# Altium schematic symbol library Integrated_Curcuits.SCHLIB: 65 symbols (part 2 of 3)
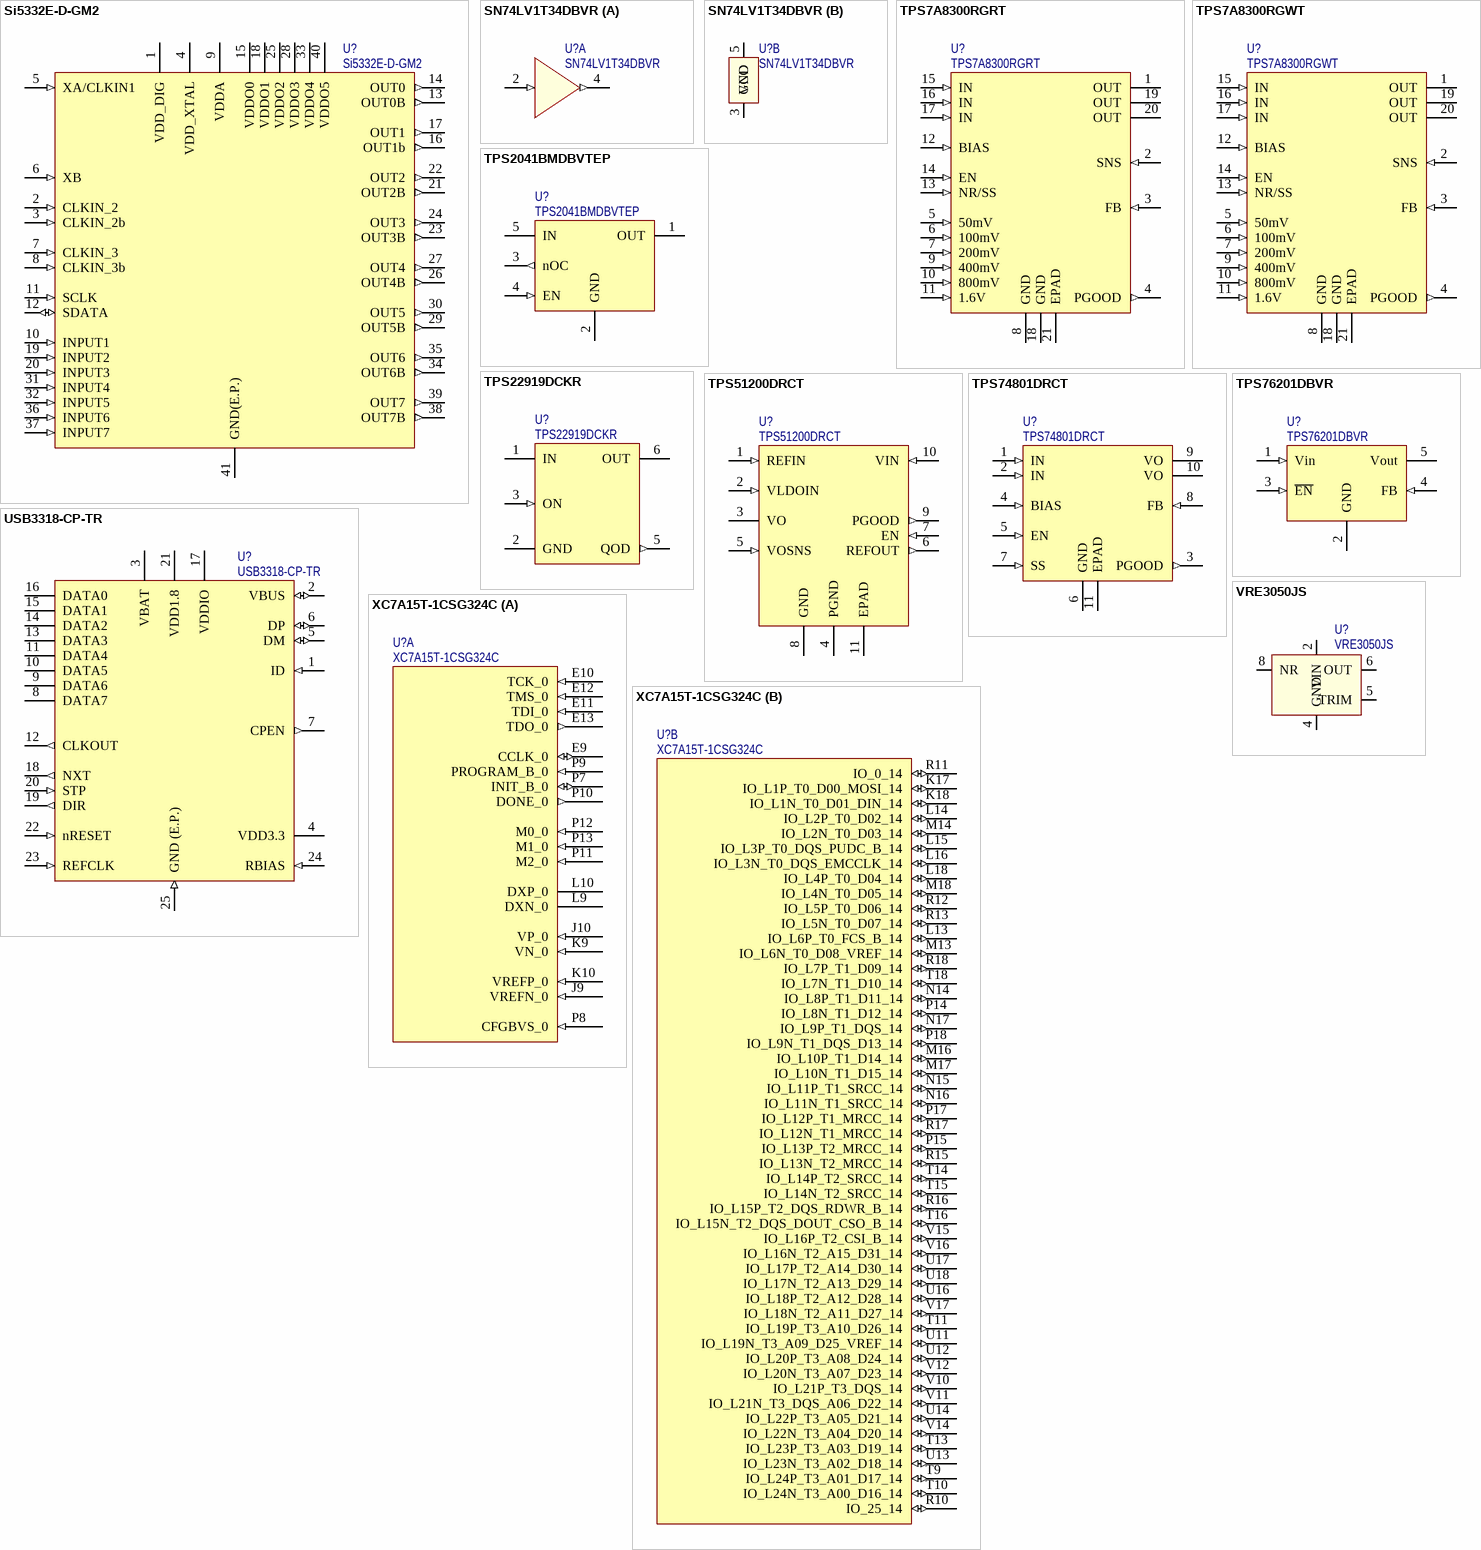
[diagram p13: symbols Si5332E-D-GM2 to XC7A15T-1CSG324C]

## TPS7A8300RGRT
designator U?
IC; Linear Voltage Regulator; Adjustable; 2A Output; VQFN20; Manufacturer: Texas Instruments; Manufacturer Part Number: TPS7A8300RGRT; Supplier 1: DigiKey; Supplier Part Number 1: 296-41871-1-ND; ComponentLink1Description: Supplier Info; ComponentLink1URL: https://www.digikey.co.uk/en/products/detail/texas-instruments/TPS7A8300RGRT/4895614?s=N4IgTCBcDa4JwDYC0AWAjADgOxqcgcgCIgC6AvkA; ComponentLink2Description: Datasheet; ComponentLink2URL: https://www.ti.com/general/docs/suppproductinfo.tsp?distId=10&gotoUrl=http%253A%252F%252Fwww.ti.com%252Flit%252Fgpn%252Ftps7a8300; Value: TPS7A8300RGRT
footprint S-PVQFN-N20-RGR (TI RGR (S-PVQFN-N20))
pins: 1 OUT (hiz), 2 SNS (in), 3 FB (in), 4 PGOOD (out), 5 50mV (in), 6 100mV (in), 7 200mV (in), 8 GND (power), 9 400mV (in), 10 800mV (in), 11 1.6V (in), 12 BIAS (in), 13 NR/SS (in), 14 EN (in), 15 IN (in), 16 IN (in), 17 IN (in), 18 GND (power), 19 OUT (hiz), 20 OUT (hiz), 21 EPAD

## TPS7A8300RGWT
designator U?
IC; Linear Voltage Regulator; Adjustable; 2A Output; VQFN20; Manufacturer: Texas Instruments; Manufacturer Part Number: TPS7A8300RGWT; Supplier 1: DigiKey; Supplier Part Number 1: 296-36510-6-ND; ComponentLink1Description: Supplier Info; ComponentLink1URL: https://www.digikey.co.uk/en/products/detail/texas-instruments/TPS7A8300RGWT/4311718?s=N4IgTCBcDa4JwDYC0BmBBWAjABicgcgCIgC6AvkA; ComponentLink2Description: Datasheet; ComponentLink2URL: https://www.ti.com/general/docs/suppproductinfo.tsp?distId=10&gotoUrl=http%253A%252F%252Fwww.ti.com%252Flit%252Fgpn%252Ftps7a8300; Value: TPS7A8300RGWT
footprint S-PVQFN-N20
pins: 1 OUT (hiz), 2 SNS (in), 3 FB (in), 4 PGOOD (out), 5 50mV (in), 6 100mV (in), 7 200mV (in), 8 GND (power), 9 400mV (in), 10 800mV (in), 11 1.6V (in), 12 BIAS (in), 13 NR/SS (in), 14 EN (in), 15 IN (in), 16 IN (in), 17 IN (in), 18 GND (power), 19 OUT (hiz), 20 OUT (hiz), 21 EPAD

## TPS2041BMDBVTEP
designator U?
IC; Power Switch/Driver; 1:1; N-Channel; 500mA; SOT23-5; Manufacturer: Texas Instruments; Manufacturer Part Number: TPS2041BMDBVTEP; Supplier 1: DigiKey; Supplier Part Number 1: 296-29758-6-ND; ComponentLink1Description: Supplier Info; ComponentLink1URL: https://www.digikey.co.uk/en/products/detail/texas-instruments/TPS2041BMDBVTEP/2767588?s=N4IgTCBcDa4JwDYC0Y4HYCsAOJyByAIiALoC%2BQA; ComponentLink2Description: Datasheet; ComponentLink2URL: http://www.ti.com/lit/ds/symlink/tps22919.pdf; Value: TPS2041BMDBVTEP
footprint SOT23-5_2_2
pins: 1 OUT (hiz), 2 GND (power), 3 nOC (out), 4 EN (in), 5 IN (power)

## TPS22919DCKR
designator U?
IC; Power Switch/Driver; 1:1; N-Channel; 1.5A; SC-70-6; Manufacturer: Texas Instruments; Manufacturer Part Number: TPS22919DCKR; Supplier 1: Digi-Key; Supplier Part Number 1: 296-TPS22919DCKRCT-ND; ComponentLink1Description: Supplier Info; ComponentLink1URL: https://www.digikey.co.uk/en/products/detail/texas-instruments/TPS22919DCKR/10434801?s=N4IgTCBcDa4JwDYC0AVACgZTGOBGOAIgMIDSASgeUgHIEgC6AvkA; ComponentLink2Description: Datasheet; ComponentLink2URL: http://www.ti.com/lit/ds/symlink/tps51200.pdf; Value: TPS22919DCKR
footprint TI-SC70-6 (SC70, 6-Leads, Body 2.00x2.10mm, Pitch 0.65mm, IPC High Density)
pins: 1 IN (power), 2 GND (power), 3 ON (in), 5 QOD (out), 6 OUT (hiz)

## TPS51200DRCT
designator U?
IC; Voltage Regulator; DDR; VSON10; Manufacturer: Texas Instruments; Manufacturer Part Number: TPS51200DRCT; Supplier 1: DigiKey; Supplier Part Number 1: 296-23830-6-ND; ComponentLink1Description: Supplier Info; ComponentLink1URL: https://www.digikey.co.uk/en/products/detail/texas-instruments/TPS51200DRCT/1907877?s=N4IgTCBcDa4JwDYC0YDMAOVAGJyByAIiALoC%2BQA; ComponentLink2Description: Datasheet; ComponentLink2URL: http://www.ti.com/general/docs/suppproductinfo.tsp?distId=10&gotoUrl=http%3A%2F%2Fwww.ti.com%2Flit%2Fgpn%2Ftps74801; Value: TPS51200DRCT
footprint PVSN10
pins: 1 REFIN (in), 2 VLDOIN (in), 3 VO (hiz), 4 PGND (power), 5 VOSNS (in), 6 REFOUT (out), 7 EN (in), 8 GND (power), 9 PGOOD (out), 10 VIN (in), 11 EPAD

## TPS74801DRCT
designator U?
IC; Linear Voltage Regulator; Adjustable; 1.5A Output; VSON20; Manufacturer: Texas Instruments; Manufacturer Part Number: TPS74801DRCT; Supplier 1: DigiKey; Supplier Part Number 1: 296-27072-6-ND; ComponentLink1Description: Supplier Info; ComponentLink1URL: https://www.digikey.co.uk/en/products/detail/texas-instruments/TPS74801DRCT/1908307?s=N4IgTCBcDa4JwDYC0YDsAGVYnIHIBEQBdAXyA; ComponentLink2Description: Datasheet; ComponentLink2URL: https://www.xilinx.com/support/documentation/data_sheets/ds181_Artix_7_Data_Sheet.pdf; Value: TPS74801DRCT
footprint PVSN10 (Footprint not found)
pins: 1 IN (in), 2 IN (in), 3 PGOOD (out), 4 BIAS (in), 5 EN (in), 6 GND (power), 7 SS (in), 8 FB (in), 9 VO (hiz), 10 VO (hiz), 11 EPAD

## TPS76201DBVR
designator U?
IC; Linear Voltage Regulator; Adjustable; 100mA Output; SOT23-5; Manufacturer: Texas Instruments; Manufacturer Part Number: TPS76201DBVR; Supplier 1: DigiKey; Supplier Part Number 1: 296-11013-1-ND; ComponentLink1Description: Supplier Info; ComponentLink1URL: https://www.digikey.co.uk/en/products/detail/texas-instruments/TPS76201DBVR/382210?s=N4IgTCBcDa4JwDYC0BGFAGFBmVSByAIiALoC%2BQA; ComponentLink2Description: Datasheet; ComponentLink2URL: http://www.ti.com/lit/ds/symlink/tps76201.pdf; Value: TPS76201DBVR
footprint SOT23-5 (SOT 23 5 lead)
pins: 1 Vin (in), 2 GND (power), 3 ~{EN} (in), 4 FB (in), 5 Vout (hiz)

## USB3318-CP-TR
designator U?
IC; Transceiver; USB2.0; FlexPWR; QFN24; Manufacturer: Microchip Technology; Manufacturer Part Number: USB3318-CP-TR; Supplier 1: DigiKey; Supplier Part Number 1: 638-1064-6-ND; ComponentLink1Description: Supplier Info; ComponentLink1URL: https://www.digikey.co.uk/en/products/detail/microchip-technology/USB3318-CP-TR/1825071?s=N4IgTCBcDaIGwGYAcBaAjABjgFhXFAcgCIgC6AvkA; ComponentLink2Description: Datasheet; ComponentLink2URL: https://ww1.microchip.com/downloads/en/DeviceDoc/3318.pdf; Value: USB3318-CP-TR
footprint SMSC-QFN24-4mmx4mm (QFN, 24-Leads, Body 4.00x4.00mm, Pitch 0.50mm, Thermal Pad 2.50x2.50mm, IPC High Density)
pins: 1 ID (in), 2 VBUS (io), 3 VBAT (power), 4 VDD3.3 (power), 5 DM (io), 6 DP (io), 7 CPEN (out), 8 DATA7 (hiz), 9 DATA6 (hiz), 10 DATA5 (hiz), 11 DATA4 (hiz), 12 CLKOUT (out), 13 DATA3 (hiz), 14 DATA2 (hiz), 15 DATA1 (hiz), 16 DATA0 (hiz), 17 VDDIO (power), 18 NXT (out), 19 DIR (out), 20 STP (in), 21 VDD1.8 (power), 22 nRESET (in), 23 REFCLK (in), 24 RBIAS (in), 25 GND (E.P.) (in)

## VRE3050JS
designator U?
IC; Series VREF; 5V; 0.01%; SMT8; Manufacturer: Apex Microtechnology; Manufacturer Part Number: VRE3050JS; Supplier 1: DigiKey; Supplier Part Number 1: 1240-1002-5-ND; ComponentLink1Description: Supplier Info; ComponentLink1URL: https://www.digikey.co.uk/en/products/detail/apex-microtechnology/VRE3050JS/2036537?s=N4IgTCBcDaIIxgCwAYC0dnLKgrKgcgCIgC6AvkA; ComponentLink2Description: Datasheet; ComponentLink2URL: https://www.apexanalog.com/resources/products/vre3050ds.pdf; Value: VRE3050JS
footprint GF (APEX 8-pin Surface Mount DIP)
pins: 2 VIN, 4 GND, 5 TRIM, 6 OUT, 8 NR

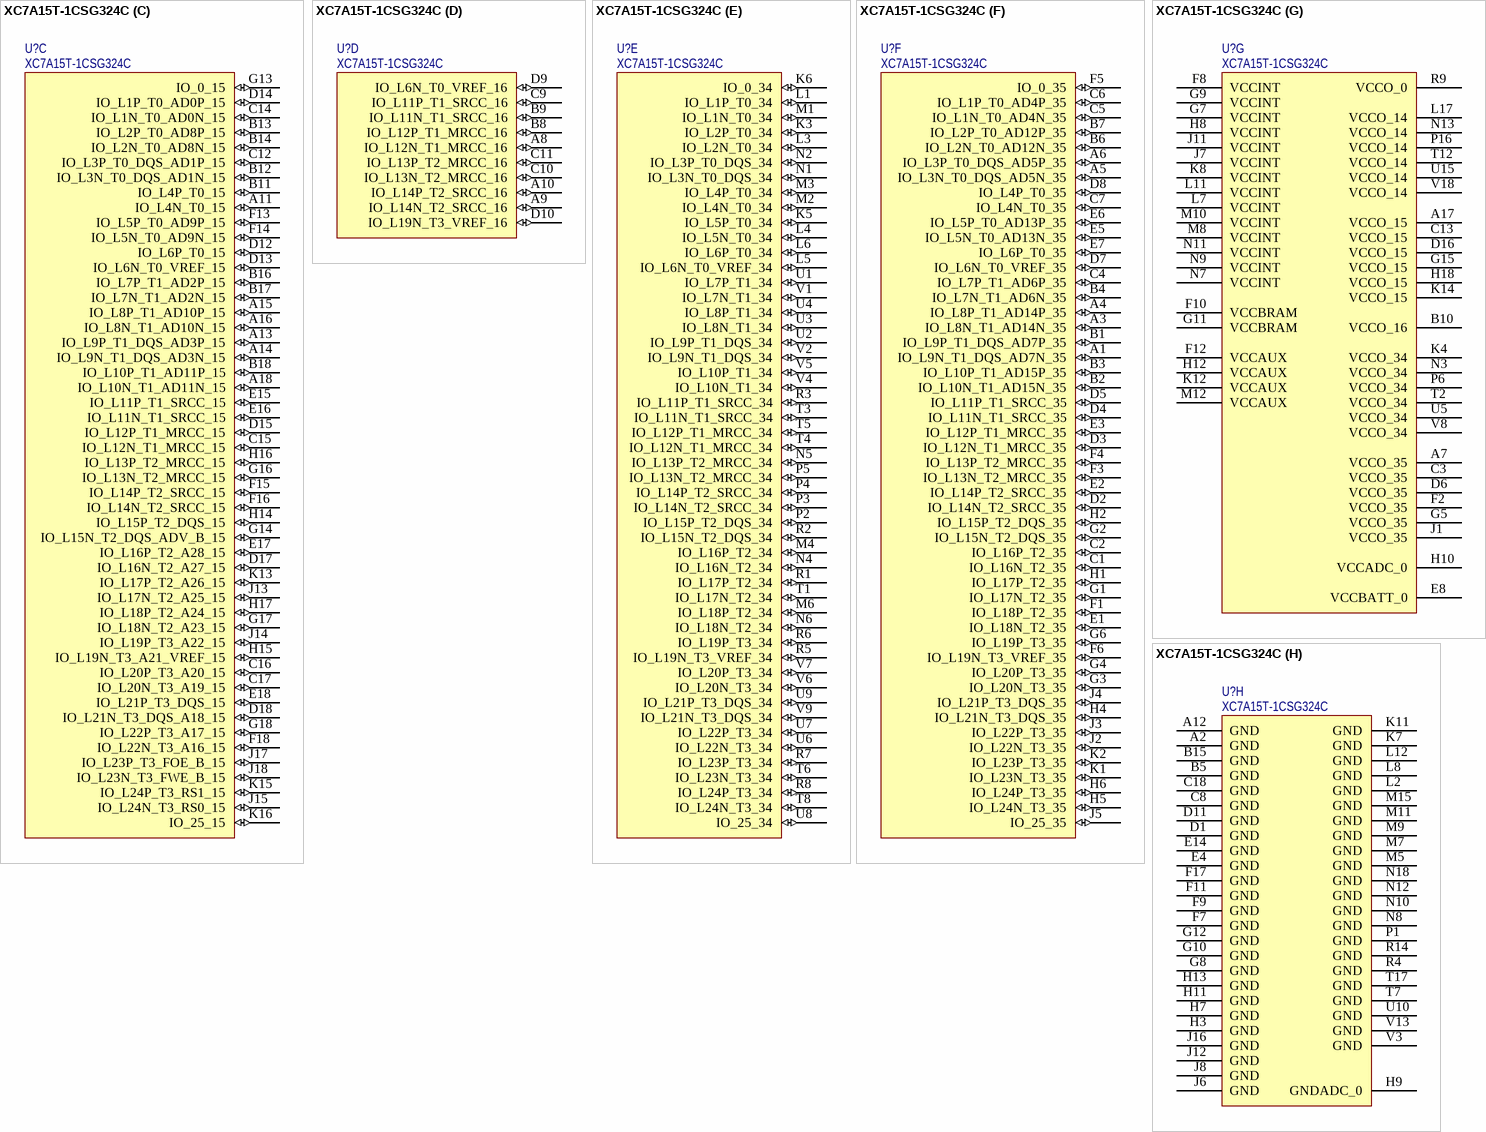
[diagram p6: symbol XC7A15T-1CSG324C]

## XC7A15T-1CSG324C
designator U?
Manufacturer: XILINX; Manufacturer Part Number: XC7A15T-1CSG324C; Supplier 1: Avnet; Supplier Part Number 1: XC7A15T-1CSG324C; ComponentLink1Description: NXP; ComponentLink1URL: https://www.nxp.com/part/MK20DN512VMD10; ComponentLink2Description: Datasheet; Value: XC7A15T-1CSG324C
footprint XC7A15T-1CSG324C (BGA, 324-Leads, Body 15.00x15.00mmx1.50mm, Pitch 0.80mm)
part A pins: E9 CCLK_0 (io), E10 TCK_0 (in), E11 TDI_0 (in), E12 TMS_0 (in), E13 TDO_0 (out), J9 VREFN_0 (in), J10 VP_0 (in), K9 VN_0 (in), K10 VREFP_0 (in), L9 DXN_0, L10 DXP_0, P7 INIT_B_0 (io), P8 CFGBVS_0 (in), P9 PROGRAM_B_0 (in), P10 DONE_0 (out), P11 M2_0 (in), P12 M0_0 (in), P13 M1_0 (in)
part B pins: K17 IO_L1P_T0_D00_MOSI_14 (io), K18 IO_L1N_T0_D01_DIN_14 (io), L13 IO_L6P_T0_FCS_B_14 (io), L14 IO_L2P_T0_D02_14 (io), L15 IO_L3P_T0_DQS_PUDC_B_14 (io), L16 IO_L3N_T0_DQS_EMCCLK_14 (io), L18 IO_L4P_T0_D04_14 (io), M13 IO_L6N_T0_D08_VREF_14 (io), M14 IO_L2N_T0_D03_14 (io), M16 IO_L10P_T1_D14_14 (io), M17 IO_L10N_T1_D15_14 (io), M18 IO_L4N_T0_D05_14 (io), N14 IO_L8P_T1_D11_14 (io), N15 IO_L11P_T1_SRCC_14 (io), N16 IO_L11N_T1_SRCC_14 (io), N17 IO_L9P_T1_DQS_14 (io), P14 IO_L8N_T1_D12_14 (io), P15 IO_L13P_T2_MRCC_14 (io), P17 IO_L12P_T1_MRCC_14 (io), P18 IO_L9N_T1_DQS_D13_14 (io), R10 IO_25_14 (io), R11 IO_0_14 (io), R12 IO_L5P_T0_D06_14 (io), R13 IO_L5N_T0_D07_14 (io), R15 IO_L13N_T2_MRCC_14 (io), R16 IO_L15P_T2_DQS_RDWR_B_14 (io), R17 IO_L12N_T1_MRCC_14 (io), R18 IO_L7P_T1_D09_14 (io), T9 IO_L24P_T3_A01_D17_14 (io), T10 IO_L24N_T3_A00_D16_14 (io), T11 IO_L19P_T3_A10_D26_14 (io), T13 IO_L23P_T3_A03_D19_14 (io), T14 IO_L14P_T2_SRCC_14 (io), T15 IO_L14N_T2_SRCC_14 (io), T16 IO_L15N_T2_DQS_DOUT_CSO_B_14 (io), T18 IO_L7N_T1_D10_14 (io), U11 IO_L19N_T3_A09_D25_VREF_14 (io), U12 IO_L20P_T3_A08_D24_14 (io), U13 IO_L23N_T3_A02_D18_14 (io), U14 IO_L22P_T3_A05_D21_14 (io), U16 IO_L18P_T2_A12_D28_14 (io), U17 IO_L17P_T2_A14_D30_14 (io), U18 IO_L17N_T2_A13_D29_14 (io), V10 IO_L21P_T3_DQS_14 (io), V11 IO_L21N_T3_DQS_A06_D22_14 (io), V12 IO_L20N_T3_A07_D23_14 (io), V14 IO_L22N_T3_A04_D20_14 (io), V15 IO_L16P_T2_CSI_B_14 (io), V16 IO_L16N_T2_A15_D31_14 (io), V17 IO_L18N_T2_A11_D27_14 (io)
part C pins: A11 IO_L4N_T0_15 (io), A13 IO_L9P_T1_DQS_AD3P_15 (io), A14 IO_L9N_T1_DQS_AD3N_15 (io), A15 IO_L8P_T1_AD10P_15 (io), A16 IO_L8N_T1_AD10N_15 (io), A18 IO_L10N_T1_AD11N_15 (io), B11 IO_L4P_T0_15 (io), B12 IO_L3N_T0_DQS_AD1N_15 (io), B13 IO_L2P_T0_AD8P_15 (io), B14 IO_L2N_T0_AD8N_15 (io), B16 IO_L7P_T1_AD2P_15 (io), B17 IO_L7N_T1_AD2N_15 (io), B18 IO_L10P_T1_AD11P_15 (io), C12 IO_L3P_T0_DQS_AD1P_15 (io), C14 IO_L1N_T0_AD0N_15 (io), C15 IO_L12N_T1_MRCC_15 (io), C16 IO_L20P_T3_A20_15 (io), C17 IO_L20N_T3_A19_15 (io), D12 IO_L6P_T0_15 (io), D13 IO_L6N_T0_VREF_15 (io), D14 IO_L1P_T0_AD0P_15 (io), D15 IO_L12P_T1_MRCC_15 (io), D17 IO_L16N_T2_A27_15 (io), D18 IO_L21N_T3_DQS_A18_15 (io), E15 IO_L11P_T1_SRCC_15 (io), E16 IO_L11N_T1_SRCC_15 (io), E17 IO_L16P_T2_A28_15 (io), E18 IO_L21P_T3_DQS_15 (io), F13 IO_L5P_T0_AD9P_15 (io), F14 IO_L5N_T0_AD9N_15 (io), F15 IO_L14P_T2_SRCC_15 (io), F16 IO_L14N_T2_SRCC_15 (io), F18 IO_L22N_T3_A16_15 (io), G13 IO_0_15 (io), G14 IO_L15N_T2_DQS_ADV_B_15 (io), G16 IO_L13N_T2_MRCC_15 (io), G17 IO_L18N_T2_A23_15 (io), G18 IO_L22P_T3_A17_15 (io), H14 IO_L15P_T2_DQS_15 (io), H15 IO_L19N_T3_A21_VREF_15 (io), H16 IO_L13P_T2_MRCC_15 (io), H17 IO_L18P_T2_A24_15 (io), J13 IO_L17N_T2_A25_15 (io), J14 IO_L19P_T3_A22_15 (io), J15 IO_L24N_T3_RS0_15 (io), J17 IO_L23P_T3_FOE_B_15 (io), J18 IO_L23N_T3_FWE_B_15 (io), K13 IO_L17P_T2_A26_15 (io), K15 IO_L24P_T3_RS1_15 (io), K16 IO_25_15 (io)
part D pins: A8 IO_L12N_T1_MRCC_16 (io), A9 IO_L14N_T2_SRCC_16 (io), A10 IO_L14P_T2_SRCC_16 (io), B8 IO_L12P_T1_MRCC_16 (io), B9 IO_L11N_T1_SRCC_16 (io), C9 IO_L11P_T1_SRCC_16 (io), C10 IO_L13N_T2_MRCC_16 (io), C11 IO_L13P_T2_MRCC_16 (io), D9 IO_L6N_T0_VREF_16 (io), D10 IO_L19N_T3_VREF_16 (io)
part E pins: K3 IO_L2P_T0_34 (io), K5 IO_L5P_T0_34 (io), K6 IO_0_34 (io), L1 IO_L1P_T0_34 (io), L3 IO_L2N_T0_34 (io), L4 IO_L5N_T0_34 (io), L5 IO_L6N_T0_VREF_34 (io), L6 IO_L6P_T0_34 (io), M1 IO_L1N_T0_34 (io), M2 IO_L4N_T0_34 (io), M3 IO_L4P_T0_34 (io), M4 IO_L16P_T2_34 (io), M6 IO_L18P_T2_34 (io), N1 IO_L3N_T0_DQS_34 (io), N2 IO_L3P_T0_DQS_34 (io), N4 IO_L16N_T2_34 (io), N5 IO_L13P_T2_MRCC_34 (io), N6 IO_L18N_T2_34 (io), P2 IO_L15P_T2_DQS_34 (io), P3 IO_L14N_T2_SRCC_34 (io), P4 IO_L14P_T2_SRCC_34 (io), P5 IO_L13N_T2_MRCC_34 (io), R1 IO_L17P_T2_34 (io), R2 IO_L15N_T2_DQS_34 (io), R3 IO_L11P_T1_SRCC_34 (io), R5 IO_L19N_T3_VREF_34 (io), R6 IO_L19P_T3_34 (io), R7 IO_L23P_T3_34 (io), R8 IO_L24P_T3_34 (io), T1 IO_L17N_T2_34 (io), T3 IO_L11N_T1_SRCC_34 (io), T4 IO_L12N_T1_MRCC_34 (io), T5 IO_L12P_T1_MRCC_34 (io), T6 IO_L23N_T3_34 (io), T8 IO_L24N_T3_34 (io), U1 IO_L7P_T1_34 (io), U2 IO_L9P_T1_DQS_34 (io), U3 IO_L8N_T1_34 (io), U4 IO_L8P_T1_34 (io), U6 IO_L22N_T3_34 (io), U7 IO_L22P_T3_34 (io), U8 IO_25_34 (io), U9 IO_L21P_T3_DQS_34 (io), V1 IO_L7N_T1_34 (io), V2 IO_L9N_T1_DQS_34 (io), V4 IO_L10N_T1_34 (io), V5 IO_L10P_T1_34 (io), V6 IO_L20N_T3_34 (io), V7 IO_L20P_T3_34 (io), V9 IO_L21N_T3_DQS_34 (io)
part F pins: A1 IO_L9N_T1_DQS_AD7N_35 (io), A3 IO_L8N_T1_AD14N_35 (io), A4 IO_L8P_T1_AD14P_35 (io), A5 IO_L3N_T0_DQS_AD5N_35 (io), A6 IO_L3P_T0_DQS_AD5P_35 (io), B1 IO_L9P_T1_DQS_AD7P_35 (io), B2 IO_L10N_T1_AD15N_35 (io), B3 IO_L10P_T1_AD15P_35 (io), B4 IO_L7N_T1_AD6N_35 (io), B6 IO_L2N_T0_AD12N_35 (io), B7 IO_L2P_T0_AD12P_35 (io), C1 IO_L16N_T2_35 (io), C2 IO_L16P_T2_35 (io), C4 IO_L7P_T1_AD6P_35 (io), C5 IO_L1N_T0_AD4N_35 (io), C6 IO_L1P_T0_AD4P_35 (io), C7 IO_L4N_T0_35 (io), D2 IO_L14N_T2_SRCC_35 (io), D3 IO_L12N_T1_MRCC_35 (io), D4 IO_L11N_T1_SRCC_35 (io), D5 IO_L11P_T1_SRCC_35 (io), D7 IO_L6N_T0_VREF_35 (io), D8 IO_L4P_T0_35 (io), E1 IO_L18N_T2_35 (io), E2 IO_L14P_T2_SRCC_35 (io), E3 IO_L12P_T1_MRCC_35 (io), E5 IO_L5N_T0_AD13N_35 (io), E6 IO_L5P_T0_AD13P_35 (io), E7 IO_L6P_T0_35 (io), F1 IO_L18P_T2_35 (io), F3 IO_L13N_T2_MRCC_35 (io), F4 IO_L13P_T2_MRCC_35 (io), F5 IO_0_35 (io), F6 IO_L19N_T3_VREF_35 (io), G1 IO_L17N_T2_35 (io), G2 IO_L15N_T2_DQS_35 (io), G3 IO_L20N_T3_35 (io), G4 IO_L20P_T3_35 (io), G6 IO_L19P_T3_35 (io), H1 IO_L17P_T2_35 (io), H2 IO_L15P_T2_DQS_35 (io), H4 IO_L21N_T3_DQS_35 (io), H5 IO_L24N_T3_35 (io), H6 IO_L24P_T3_35 (io), J2 IO_L22N_T3_35 (io), J3 IO_L22P_T3_35 (io), J4 IO_L21P_T3_DQS_35 (io), J5 IO_25_35 (io), K1 IO_L23N_T3_35 (io), K2 IO_L23P_T3_35 (io)
part G pins: A7 VCCO_35 (power), A17 VCCO_15 (power), B10 VCCO_16 (power), C3 VCCO_35 (power), C13 VCCO_15 (power), D6 VCCO_35 (power), D16 VCCO_15 (power), E8 VCCBATT_0 (power), F2 VCCO_35 (power), F8 VCCINT (power), F10 VCCBRAM (power), F12 VCCAUX (power), G5 VCCO_35 (power), G7 VCCINT (power), G9 VCCINT (power), G11 VCCBRAM (power), G15 VCCO_15 (power), H8 VCCINT (power), H10 VCCADC_0 (power), H12 VCCAUX (power), H18 VCCO_15 (power), J1 VCCO_35 (power), J7 VCCINT (power), J11 VCCINT (power), K4 VCCO_34 (power), K8 VCCINT (power), K12 VCCAUX (power), K14 VCCO_15 (power), L7 VCCINT (power), L11 VCCINT (power), L17 VCCO_14 (power), M8 VCCINT (power), M10 VCCINT (power), M12 VCCAUX (power), N3 VCCO_34 (power), N7 VCCINT (power), N9 VCCINT (power), N11 VCCINT (power), N13 VCCO_14 (power), P6 VCCO_34 (power), P16 VCCO_14 (power), R9 VCCO_0 (power), T2 VCCO_34 (power), T12 VCCO_14 (power), U5 VCCO_34 (power), U15 VCCO_14 (power), V8 VCCO_34 (power), V18 VCCO_14 (power)
part H pins: A2 GND (power), A12 GND (power), B5 GND (power), B15 GND (power), C8 GND (power), C18 GND (power), D1 GND (power), D11 GND (power), E4 GND (power), E14 GND (power), F7 GND (power), F9 GND (power), F11 GND (power), F17 GND (power), G8 GND (power), G10 GND (power), G12 GND (power), H3 GND (power), H7 GND (power), H9 GNDADC_0 (power), H11 GND (power), H13 GND (power), J6 GND (power), J8 GND (power), J12 GND (power), J16 GND (power), K7 GND (power), K11 GND (power), L2 GND (power), L8 GND (power), L12 GND (power), M5 GND (power), M7 GND (power), M9 GND (power), M11 GND (power), M15 GND (power), N8 GND (power), N10 GND (power), N12 GND (power), N18 GND (power), P1 GND (power), R4 GND (power), R14 GND (power), T7 GND (power), T17 GND (power), U10 GND (power), V3 GND (power), V13 GND (power)

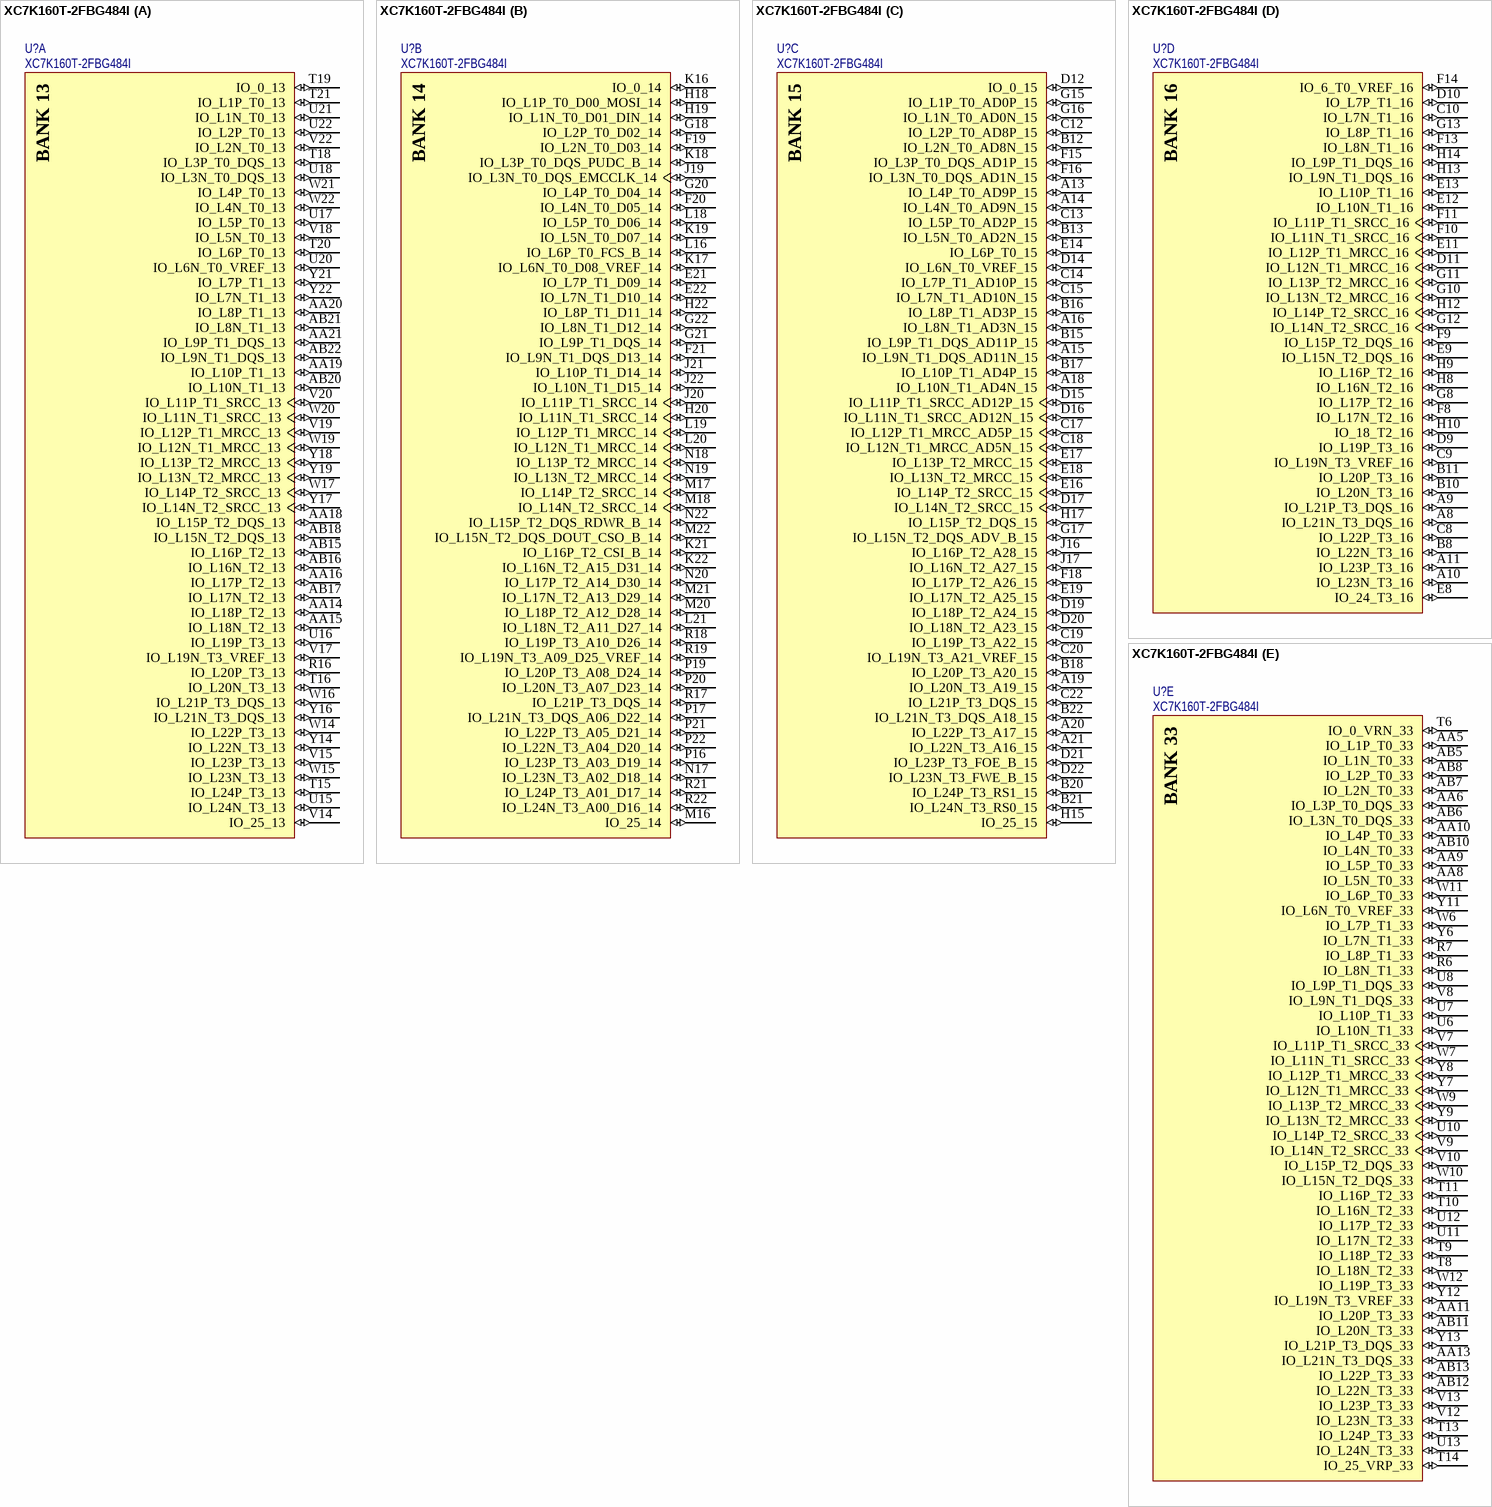
[diagram p7: symbol XC7K160T-2FBG484I]

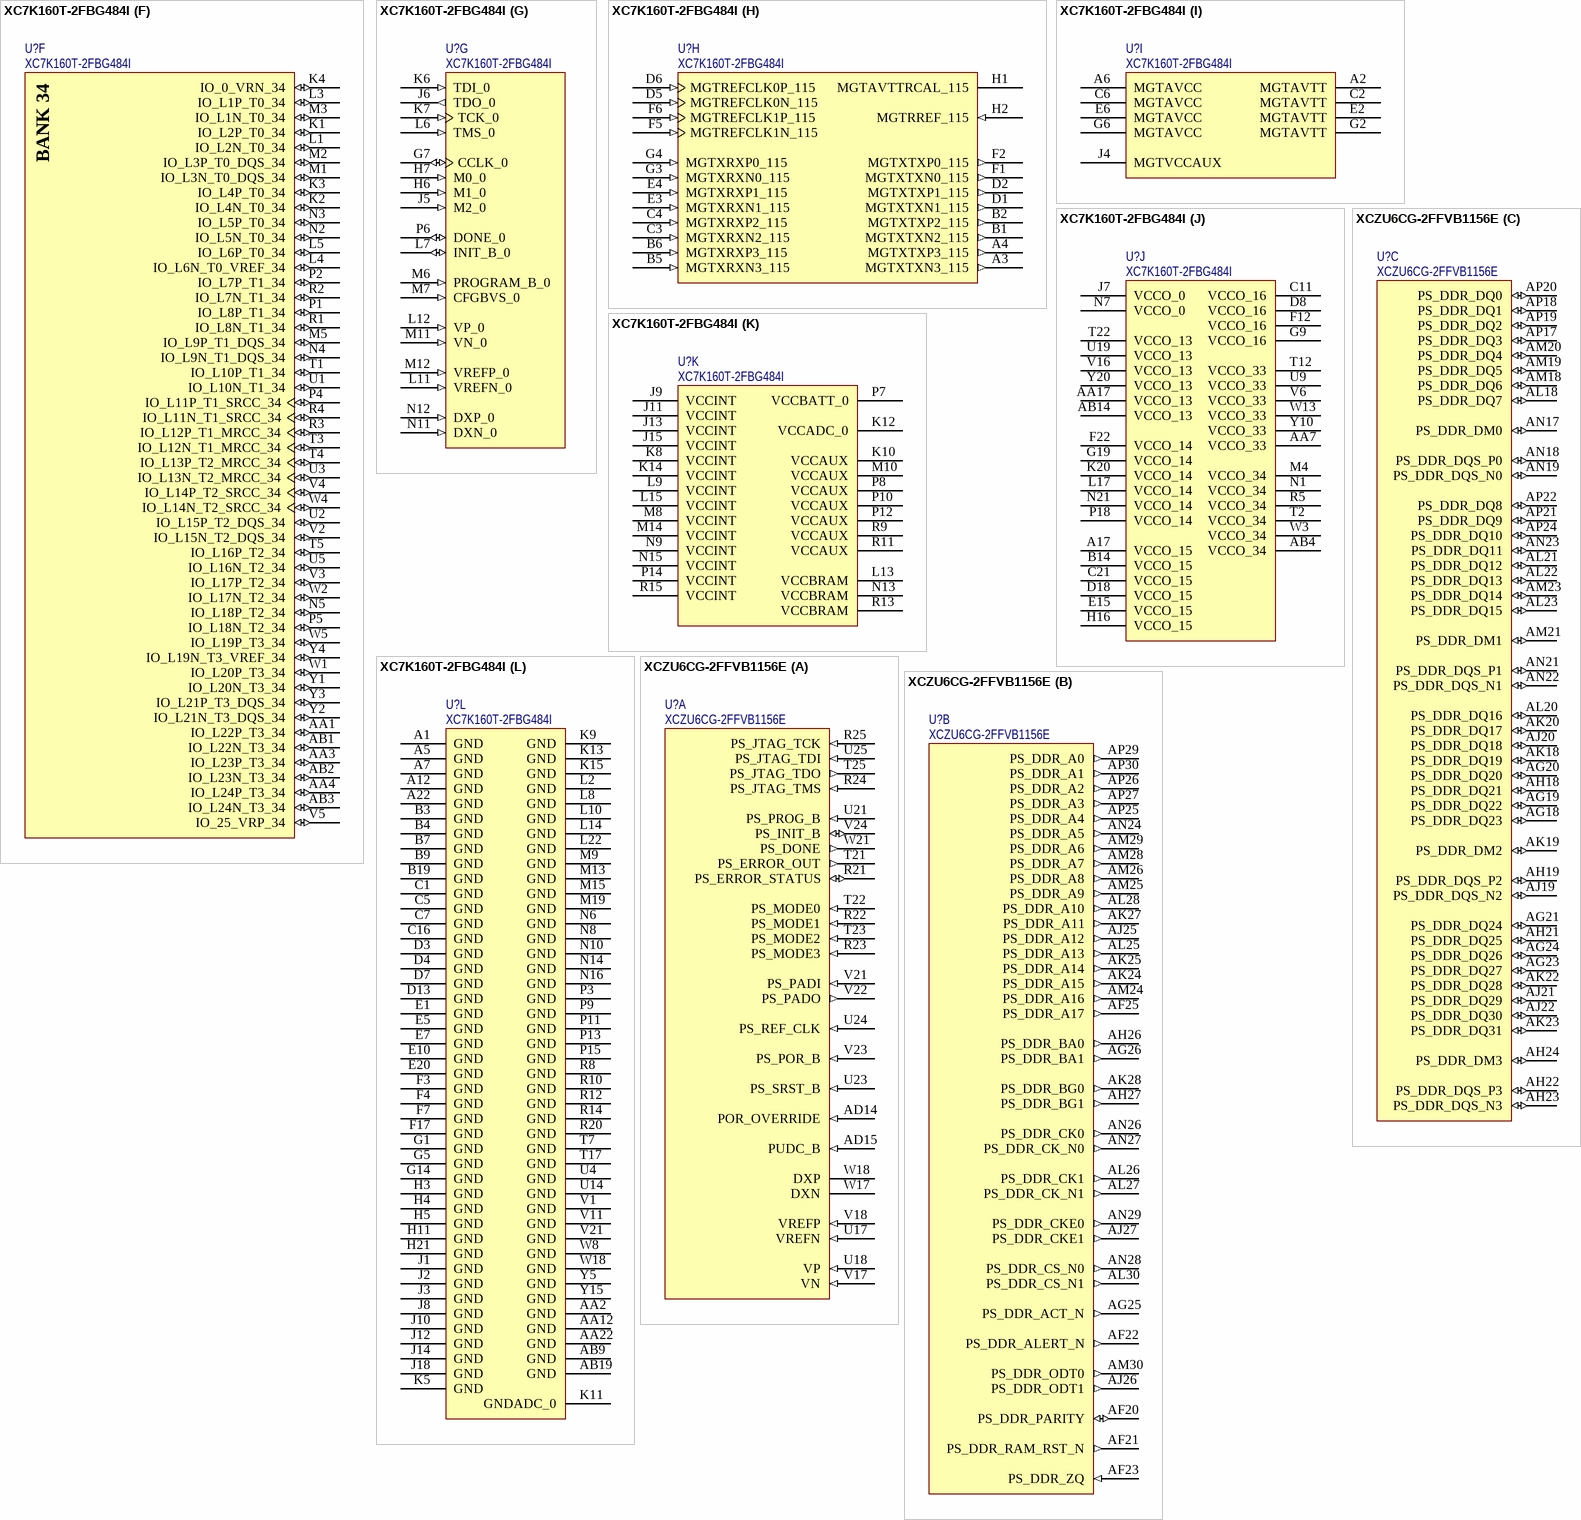
[diagram p8: symbols XC7K160T-2FBG484I to XCZU6CG-2FFVB1156E]

## XC7K160T-2FBG484I
designator U?
Kintex-7 FPGA, 400 User I/Os, 4 GTX, 484-Ball BGA, Speed Grade 2, Industrial Grade, Pb-Free; Manufacturer: XILINX; Manufacturer Part Number: XC7K160T-2FBG484I; Supplier 1: AVNET; Supplier Part Number 1: XC7K160T-2FBG484I; ComponentLink1Description: Package Specification; ComponentLink1URL: http://www.xilinx.com/support/documentation/user_guides/ug475_7Series_Pkg_Pinout.pdf; ComponentLink2Description: Datasheet; ComponentLink2URL: http://www.xilinx.com/support/documentation/data_sheets/ds180_7Series_Overview.pdf; Value: XC7K160T-2FBG484I
footprint FBG484 (BGA, 484-Balls, Body 23x23mm, Pitch 1.0mm)
part A pins: AA14 IO_L18P_T2_13 (io), AA15 IO_L18N_T2_13 (io), AA16 IO_L17P_T2_13 (io), AA18 IO_L15P_T2_DQS_13 (io), AA19 IO_L10P_T1_13 (io), AA20 IO_L8P_T1_13 (io), AA21 IO_L9P_T1_DQS_13 (io), AB15 IO_L16P_T2_13 (io), AB16 IO_L16N_T2_13 (io), AB17 IO_L17N_T2_13 (io), AB18 IO_L15N_T2_DQS_13 (io), AB20 IO_L10N_T1_13 (io), AB21 IO_L8N_T1_13 (io), AB22 IO_L9N_T1_DQS_13 (io), R16 IO_L20P_T3_13 (io), T15 IO_L24P_T3_13 (io), T16 IO_L20N_T3_13 (io), T18 IO_L3P_T0_DQS_13 (io), T19 IO_0_13 (io), T20 IO_L6P_T0_13 (io), T21 IO_L1P_T0_13 (io), U15 IO_L24N_T3_13 (io), U16 IO_L19P_T3_13 (io), U17 IO_L5P_T0_13 (io), U18 IO_L3N_T0_DQS_13 (io), U20 IO_L6N_T0_VREF_13 (io), U21 IO_L1N_T0_13 (io), U22 IO_L2P_T0_13 (io), V14 IO_25_13 (io), V15 IO_L23P_T3_13 (io), V17 IO_L19N_T3_VREF_13 (io), V18 IO_L5N_T0_13 (io), V19 IO_L12P_T1_MRCC_13 (io), V20 IO_L11P_T1_SRCC_13 (io), V22 IO_L2N_T0_13 (io), W14 IO_L22P_T3_13 (io), W15 IO_L23N_T3_13 (io), W16 IO_L21P_T3_DQS_13 (io), W17 IO_L14P_T2_SRCC_13 (io), W19 IO_L12N_T1_MRCC_13 (io), W20 IO_L11N_T1_SRCC_13 (io), W21 IO_L4P_T0_13 (io), W22 IO_L4N_T0_13 (io), Y14 IO_L22N_T3_13 (io), Y16 IO_L21N_T3_DQS_13 (io), Y17 IO_L14N_T2_SRCC_13 (io), Y18 IO_L13P_T2_MRCC_13 (io), Y19 IO_L13N_T2_MRCC_13 (io), Y21 IO_L7P_T1_13 (io), Y22 IO_L7N_T1_13 (io)
part B pins: E21 IO_L7P_T1_D09_14 (io), E22 IO_L7N_T1_D10_14 (io), F19 IO_L2N_T0_D03_14 (io), F20 IO_L4N_T0_D05_14 (io), F21 IO_L9N_T1_DQS_D13_14 (io), G18 IO_L2P_T0_D02_14 (io), G20 IO_L4P_T0_D04_14 (io), G21 IO_L9P_T1_DQS_14 (io), G22 IO_L8N_T1_D12_14 (io), H18 IO_L1P_T0_D00_MOSI_14 (io), H19 IO_L1N_T0_D01_DIN_14 (io), H20 IO_L11N_T1_SRCC_14 (io), H22 IO_L8P_T1_D11_14 (io), J19 IO_L3N_T0_DQS_EMCCLK_14 (io), J20 IO_L11P_T1_SRCC_14 (io), J21 IO_L10P_T1_D14_14 (io), J22 IO_L10N_T1_D15_14 (io), K16 IO_0_14 (io), K17 IO_L6N_T0_D08_VREF_14 (io), K18 IO_L3P_T0_DQS_PUDC_B_14 (io), K19 IO_L5N_T0_D07_14 (io), K21 IO_L16P_T2_CSI_B_14 (io), K22 IO_L16N_T2_A15_D31_14 (io), L16 IO_L6P_T0_FCS_B_14 (io), L18 IO_L5P_T0_D06_14 (io), L19 IO_L12P_T1_MRCC_14 (io), L20 IO_L12N_T1_MRCC_14 (io), L21 IO_L18N_T2_A11_D27_14 (io), M16 IO_25_14 (io), M17 IO_L14P_T2_SRCC_14 (io), M18 IO_L14N_T2_SRCC_14 (io), M20 IO_L18P_T2_A12_D28_14 (io), M21 IO_L17N_T2_A13_D29_14 (io), M22 IO_L15N_T2_DQS_DOUT_CSO_B_14 (io), N17 IO_L23N_T3_A02_D18_14 (io), N18 IO_L13P_T2_MRCC_14 (io), N19 IO_L13N_T2_MRCC_14 (io), N20 IO_L17P_T2_A14_D30_14 (io), N22 IO_L15P_T2_DQS_RDWR_B_14 (io), P16 IO_L23P_T3_A03_D19_14 (io), P17 IO_L21N_T3_DQS_A06_D22_14 (io), P19 IO_L20P_T3_A08_D24_14 (io), P20 IO_L20N_T3_A07_D23_14 (io), P21 IO_L22P_T3_A05_D21_14 (io), P22 IO_L22N_T3_A04_D20_14 (io), R17 IO_L21P_T3_DQS_14 (io), R18 IO_L19P_T3_A10_D26_14 (io), R19 IO_L19N_T3_A09_D25_VREF_14 (io), R21 IO_L24P_T3_A01_D17_14 (io), R22 IO_L24N_T3_A00_D16_14 (io)
part C pins: A13 IO_L4P_T0_AD9P_15 (io), A14 IO_L4N_T0_AD9N_15 (io), A15 IO_L9N_T1_DQS_AD11N_15 (io), A16 IO_L8N_T1_AD3N_15 (io), A18 IO_L10N_T1_AD4N_15 (io), A19 IO_L20N_T3_A19_15 (io), A20 IO_L22P_T3_A17_15 (io), A21 IO_L22N_T3_A16_15 (io), B12 IO_L2N_T0_AD8N_15 (io), B13 IO_L5N_T0_AD2N_15 (io), B15 IO_L9P_T1_DQS_AD11P_15 (io), B16 IO_L8P_T1_AD3P_15 (io), B17 IO_L10P_T1_AD4P_15 (io), B18 IO_L20P_T3_A20_15 (io), B20 IO_L24P_T3_RS1_15 (io), B21 IO_L24N_T3_RS0_15 (io), B22 IO_L21N_T3_DQS_A18_15 (io), C12 IO_L2P_T0_AD8P_15 (io), C13 IO_L5P_T0_AD2P_15 (io), C14 IO_L7P_T1_AD10P_15 (io), C15 IO_L7N_T1_AD10N_15 (io), C17 IO_L12P_T1_MRCC_AD5P_15 (io), C18 IO_L12N_T1_MRCC_AD5N_15 (io), C19 IO_L19P_T3_A22_15 (io), C20 IO_L19N_T3_A21_VREF_15 (io), C22 IO_L21P_T3_DQS_15 (io), D12 IO_0_15 (io), D14 IO_L6N_T0_VREF_15 (io), D15 IO_L11P_T1_SRCC_AD12P_15 (io), D16 IO_L11N_T1_SRCC_AD12N_15 (io), D17 IO_L14N_T2_SRCC_15 (io), D19 IO_L18P_T2_A24_15 (io), D20 IO_L18N_T2_A23_15 (io), D21 IO_L23P_T3_FOE_B_15 (io), D22 IO_L23N_T3_FWE_B_15 (io), E14 IO_L6P_T0_15 (io), E16 IO_L14P_T2_SRCC_15 (io), E17 IO_L13P_T2_MRCC_15 (io), E18 IO_L13N_T2_MRCC_15 (io), E19 IO_L17N_T2_A25_15 (io), F15 IO_L3P_T0_DQS_AD1P_15 (io), F16 IO_L3N_T0_DQS_AD1N_15 (io), F18 IO_L17P_T2_A26_15 (io), G15 IO_L1P_T0_AD0P_15 (io), G16 IO_L1N_T0_AD0N_15 (io), G17 IO_L15N_T2_DQS_ADV_B_15 (io), H15 IO_25_15 (io), H17 IO_L15P_T2_DQS_15 (io), J16 IO_L16P_T2_A28_15 (io), J17 IO_L16N_T2_A27_15 (io)
part D pins: A8 IO_L21N_T3_DQS_16 (io), A9 IO_L21P_T3_DQS_16 (io), A10 IO_L23N_T3_16 (io), A11 IO_L23P_T3_16 (io), B8 IO_L22N_T3_16 (io), B10 IO_L20N_T3_16 (io), B11 IO_L20P_T3_16 (io), C8 IO_L22P_T3_16 (io), C9 IO_L19N_T3_VREF_16 (io), C10 IO_L7N_T1_16 (io), D9 IO_L19P_T3_16 (io), D10 IO_L7P_T1_16 (io), D11 IO_L12N_T1_MRCC_16 (io), E8 IO_24_T3_16 (io), E9 IO_L15N_T2_DQS_16 (io), E11 IO_L12P_T1_MRCC_16 (io), E12 IO_L10N_T1_16 (io), E13 IO_L10P_T1_16 (io), F8 IO_L17N_T2_16 (io), F9 IO_L15P_T2_DQS_16 (io), F10 IO_L11N_T1_SRCC_16 (io), F11 IO_L11P_T1_SRCC_16 (io), F13 IO_L8N_T1_16 (io), F14 IO_6_T0_VREF_16 (io), G8 IO_L17P_T2_16 (io), G10 IO_L13N_T2_MRCC_16 (io), G11 IO_L13P_T2_MRCC_16 (io), G12 IO_L14N_T2_SRCC_16 (io), G13 IO_L8P_T1_16 (io), H8 IO_L16N_T2_16 (io), H9 IO_L16P_T2_16 (io), H10 IO_18_T2_16 (io), H12 IO_L14P_T2_SRCC_16 (io), H13 IO_L9N_T1_DQS_16 (io), H14 IO_L9P_T1_DQS_16 (io)
part E pins: AA5 IO_L1P_T0_33 (io), AA6 IO_L3P_T0_DQS_33 (io), AA8 IO_L5N_T0_33 (io), AA9 IO_L5P_T0_33 (io), AA10 IO_L4P_T0_33 (io), AA11 IO_L20P_T3_33 (io), AA13 IO_L21N_T3_DQS_33 (io), AB5 IO_L1N_T0_33 (io), AB6 IO_L3N_T0_DQS_33 (io), AB7 IO_L2N_T0_33 (io), AB8 IO_L2P_T0_33 (io), AB10 IO_L4N_T0_33 (io), AB11 IO_L20N_T3_33 (io), AB12 IO_L22N_T3_33 (io), AB13 IO_L22P_T3_33 (io), R6 IO_L8N_T1_33 (io), R7 IO_L8P_T1_33 (io), T6 IO_0_VRN_33 (io), T8 IO_L18N_T2_33 (io), T9 IO_L18P_T2_33 (io), T10 IO_L16N_T2_33 (io), T11 IO_L16P_T2_33 (io), T13 IO_L24P_T3_33 (io), T14 IO_25_VRP_33 (io), U6 IO_L10N_T1_33 (io), U7 IO_L10P_T1_33 (io), U8 IO_L9P_T1_DQS_33 (io), U10 IO_L14P_T2_SRCC_33 (io), U11 IO_L17N_T2_33 (io), U12 IO_L17P_T2_33 (io), U13 IO_L24N_T3_33 (io), V7 IO_L11P_T1_SRCC_33 (io), V8 IO_L9N_T1_DQS_33 (io), V9 IO_L14N_T2_SRCC_33 (io), V10 IO_L15P_T2_DQS_33 (io), V12 IO_L23N_T3_33 (io), V13 IO_L23P_T3_33 (io), W6 IO_L7P_T1_33 (io), W7 IO_L11N_T1_SRCC_33 (io), W9 IO_L13P_T2_MRCC_33 (io), W10 IO_L15N_T2_DQS_33 (io), W11 IO_L6P_T0_33 (io), W12 IO_L19P_T3_33 (io), Y6 IO_L7N_T1_33 (io), Y7 IO_L12N_T1_MRCC_33 (io), Y8 IO_L12P_T1_MRCC_33 (io), Y9 IO_L13N_T2_MRCC_33 (io), Y11 IO_L6N_T0_VREF_33 (io), Y12 IO_L19N_T3_VREF_33 (io), Y13 IO_L21P_T3_DQS_33 (io)
part F pins: AA1 IO_L22P_T3_34 (io), AA3 IO_L23P_T3_34 (io), AA4 IO_L24P_T3_34 (io), AB1 IO_L22N_T3_34 (io), AB2 IO_L23N_T3_34 (io), AB3 IO_L24N_T3_34 (io), K1 IO_L2P_T0_34 (io), K2 IO_L4N_T0_34 (io), K3 IO_L4P_T0_34 (io), K4 IO_0_VRN_34 (io), L1 IO_L2N_T0_34 (io), L3 IO_L1P_T0_34 (io), L4 IO_L6N_T0_VREF_34 (io), L5 IO_L6P_T0_34 (io), M1 IO_L3N_T0_DQS_34 (io), M2 IO_L3P_T0_DQS_34 (io), M3 IO_L1N_T0_34 (io), M5 IO_L9P_T1_DQS_34 (io), N2 IO_L5N_T0_34 (io), N3 IO_L5P_T0_34 (io), N4 IO_L9N_T1_DQS_34 (io), N5 IO_L18P_T2_34 (io), P1 IO_L8P_T1_34 (io), P2 IO_L7P_T1_34 (io), P4 IO_L11P_T1_SRCC_34 (io), P5 IO_L18N_T2_34 (io), R1 IO_L8N_T1_34 (io), R2 IO_L7N_T1_34 (io), R3 IO_L12P_T1_MRCC_34 (io), R4 IO_L11N_T1_SRCC_34 (io), T1 IO_L10P_T1_34 (io), T3 IO_L12N_T1_MRCC_34 (io), T4 IO_L13P_T2_MRCC_34 (io), T5 IO_L16P_T2_34 (io), U1 IO_L10N_T1_34 (io), U2 IO_L15P_T2_DQS_34 (io), U3 IO_L13N_T2_MRCC_34 (io), U5 IO_L16N_T2_34 (io), V2 IO_L15N_T2_DQS_34 (io), V3 IO_L17P_T2_34 (io), V4 IO_L14P_T2_SRCC_34 (io), V5 IO_25_VRP_34 (io), W1 IO_L20P_T3_34 (io), W2 IO_L17N_T2_34 (io), W4 IO_L14N_T2_SRCC_34 (io), W5 IO_L19P_T3_34 (io), Y1 IO_L20N_T3_34 (io), Y2 IO_L21N_T3_DQS_34 (io), Y3 IO_L21P_T3_DQS_34 (io), Y4 IO_L19N_T3_VREF_34 (io)
part G pins: G7 CCLK_0 (io), H6 M1_0 (in), H7 M0_0 (in), J5 M2_0 (in), J6 TDO_0 (out), K6 TDI_0 (in), K7 TCK_0 (in), L6 TMS_0 (in), L7 INIT_B_0 (io), L11 VREFN_0 (in), L12 VP_0 (in), M6 PROGRAM_B_0 (in), M7 CFGBVS_0 (in), M11 VN_0 (in), M12 VREFP_0 (in), N11 DXN_0 (in), N12 DXP_0 (in), P6 DONE_0 (io)
part H pins: A3 MGTXTXN3_115 (out), A4 MGTXTXP3_115 (out), B1 MGTXTXN2_115 (out), B2 MGTXTXP2_115 (out), B5 MGTXRXN3_115 (in), B6 MGTXRXP3_115 (in), C3 MGTXRXN2_115 (in), C4 MGTXRXP2_115 (in), D1 MGTXTXN1_115 (out), D2 MGTXTXP1_115 (out), D5 MGTREFCLK0N_115 (in), D6 MGTREFCLK0P_115 (in), E3 MGTXRXN1_115 (in), E4 MGTXRXP1_115 (in), F1 MGTXTXN0_115 (out), F2 MGTXTXP0_115 (out), F5 MGTREFCLK1N_115 (in), F6 MGTREFCLK1P_115 (in), G3 MGTXRXN0_115 (in), G4 MGTXRXP0_115 (in), H1 MGTAVTTRCAL_115, H2 MGTRREF_115 (in)
part I pins: A2 MGTAVTT (power), A6 MGTAVCC (power), C2 MGTAVTT (power), C6 MGTAVCC (power), E2 MGTAVTT (power), E6 MGTAVCC (power), G2 MGTAVTT (power), G6 MGTAVCC (power), J4 MGTVCCAUX (power)
part J pins: A17 VCCO_15 (power), AA7 VCCO_33 (power), AA17 VCCO_13 (power), AB4 VCCO_34 (power), AB14 VCCO_13 (power), B14 VCCO_15 (power), C11 VCCO_16 (power), C21 VCCO_15 (power), D8 VCCO_16 (power), D18 VCCO_15 (power), E15 VCCO_15 (power), F12 VCCO_16 (power), F22 VCCO_14 (power), G9 VCCO_16 (power), G19 VCCO_14 (power), H16 VCCO_15 (power), J7 VCCO_0 (power), K20 VCCO_14 (power), L17 VCCO_14 (power), M4 VCCO_34 (power), N1 VCCO_34 (power), N7 VCCO_0 (power), N21 VCCO_14 (power), P18 VCCO_14 (power), R5 VCCO_34 (power), T2 VCCO_34 (power), T12 VCCO_33 (power), T22 VCCO_13 (power), U9 VCCO_33 (power), U19 VCCO_13 (power), V6 VCCO_33 (power), V16 VCCO_13 (power), W3 VCCO_34 (power), W13 VCCO_33 (power), Y10 VCCO_33 (power), Y20 VCCO_13 (power)
part K pins: J9 VCCINT (power), J11 VCCINT (power), J13 VCCINT (power), J15 VCCINT (power), K8 VCCINT (power), K10 VCCAUX (power), K12 VCCADC_0 (power), K14 VCCINT (power), L9 VCCINT (power), L13 VCCBRAM (power), L15 VCCINT (power), M8 VCCINT (power), M10 VCCAUX (power), M14 VCCINT (power), N9 VCCINT (power), N13 VCCBRAM (power), N15 VCCINT (power), P7 VCCBATT_0 (power), P8 VCCAUX (power), P10 VCCAUX (power), P12 VCCAUX (power), P14 VCCINT (power), R9 VCCAUX (power), R11 VCCAUX (power), R13 VCCBRAM (power), R15 VCCINT (power)
part L pins: A1 GND (power), A5 GND (power), A7 GND (power), A12 GND (power), A22 GND (power), AA2 GND (power), AA12 GND (power), AA22 GND (power), AB9 GND (power), AB19 GND (power), B3 GND (power), B4 GND (power), B7 GND (power), B9 GND (power), B19 GND (power), C1 GND (power), C5 GND (power), C7 GND (power), C16 GND (power), D3 GND (power), D4 GND (power), D7 GND (power), D13 GND (power), E1 GND (power), E5 GND (power), E7 GND (power), E10 GND (power), E20 GND (power), F3 GND (power), F4 GND (power), F7 GND (power), F17 GND (power), G1 GND (power), G5 GND (power), G14 GND (power), H3 GND (power), H4 GND (power), H5 GND (power), H11 GND (power), H21 GND (power), J1 GND (power), J2 GND (power), J3 GND (power), J8 GND (power), J10 GND (power), J12 GND (power), J14 GND (power), J18 GND (power), K5 GND (power), K9 GND (power), K11 GNDADC_0 (power), K13 GND (power), K15 GND (power), L2 GND (power), L8 GND (power), L10 GND (power), L14 GND (power), L22 GND (power), M9 GND (power), M13 GND (power), M15 GND (power), M19 GND (power), N6 GND (power), N8 GND (power), N10 GND (power), N14 GND (power), N16 GND (power), P3 GND (power), P9 GND (power), P11 GND (power), P13 GND (power), P15 GND (power), R8 GND (power), R10 GND (power), R12 GND (power), R14 GND (power), R20 GND (power), T7 GND (power), T17 GND (power), U4 GND (power), U14 GND (power), V1 GND (power), V11 GND (power), V21 GND (power), W8 GND (power), W18 GND (power), Y5 GND (power), Y15 GND (power)
part A text: BANK 13
part B text: BANK 14
part C text: BANK 15
part D text: BANK 16
part E text: BANK 33
part F text: BANK 34

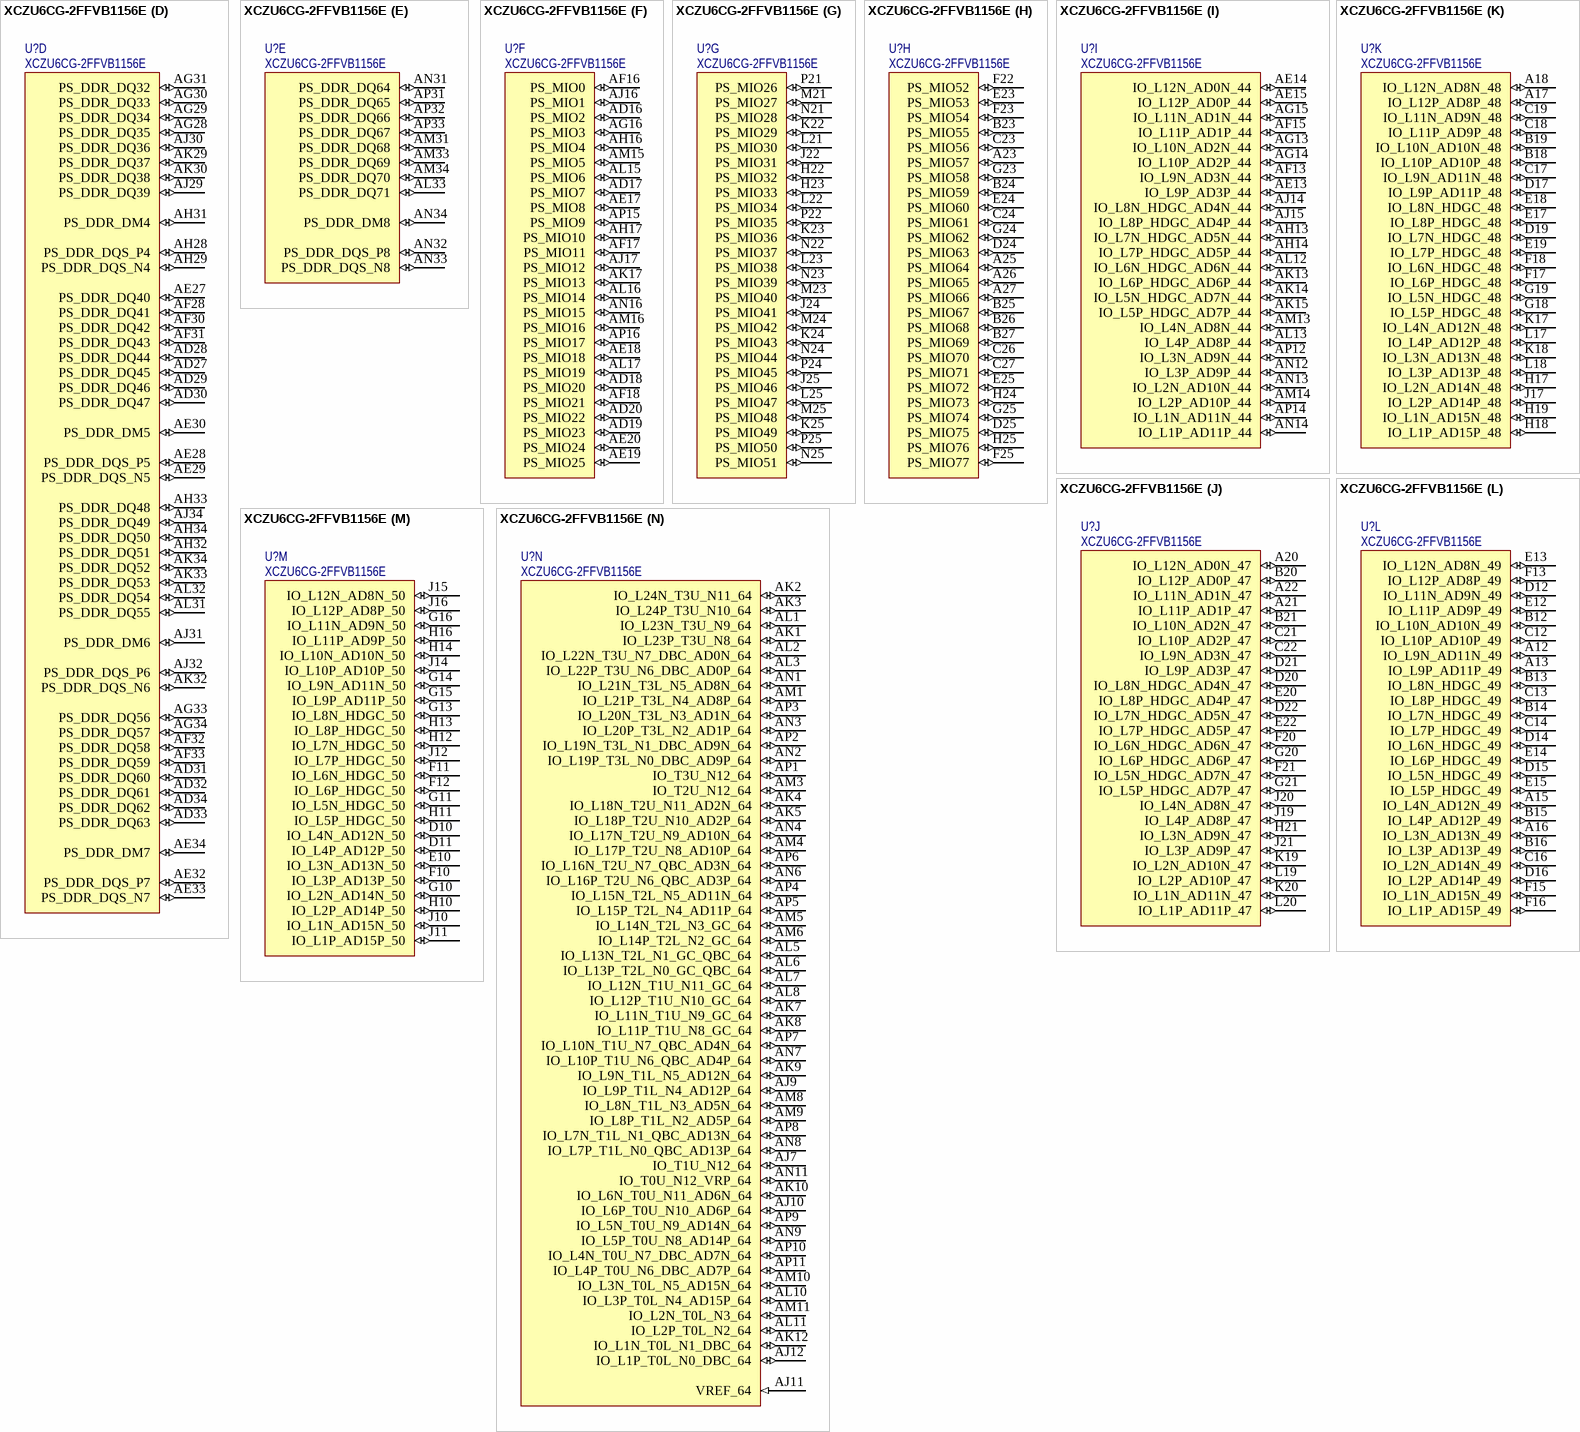
[diagram p9: symbol XCZU6CG-2FFVB1156E]

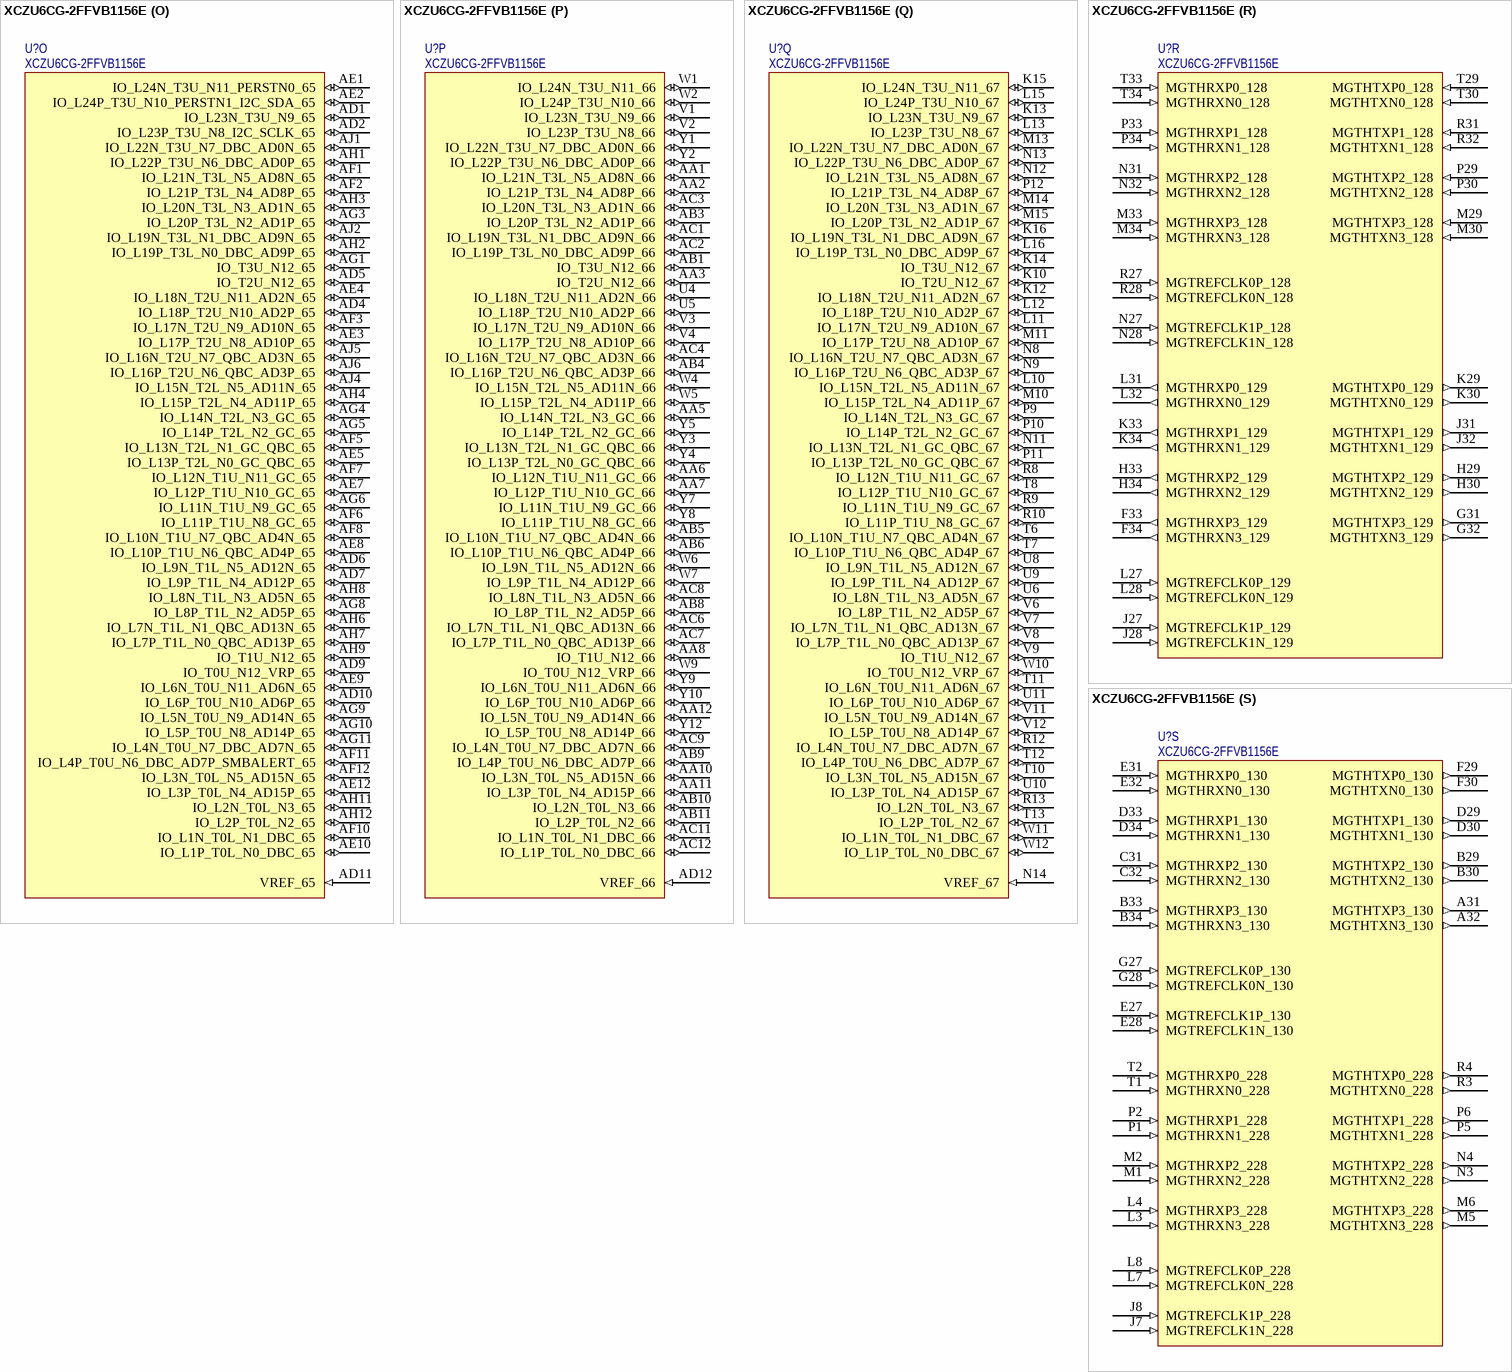
[diagram p10: symbol XCZU6CG-2FFVB1156E]

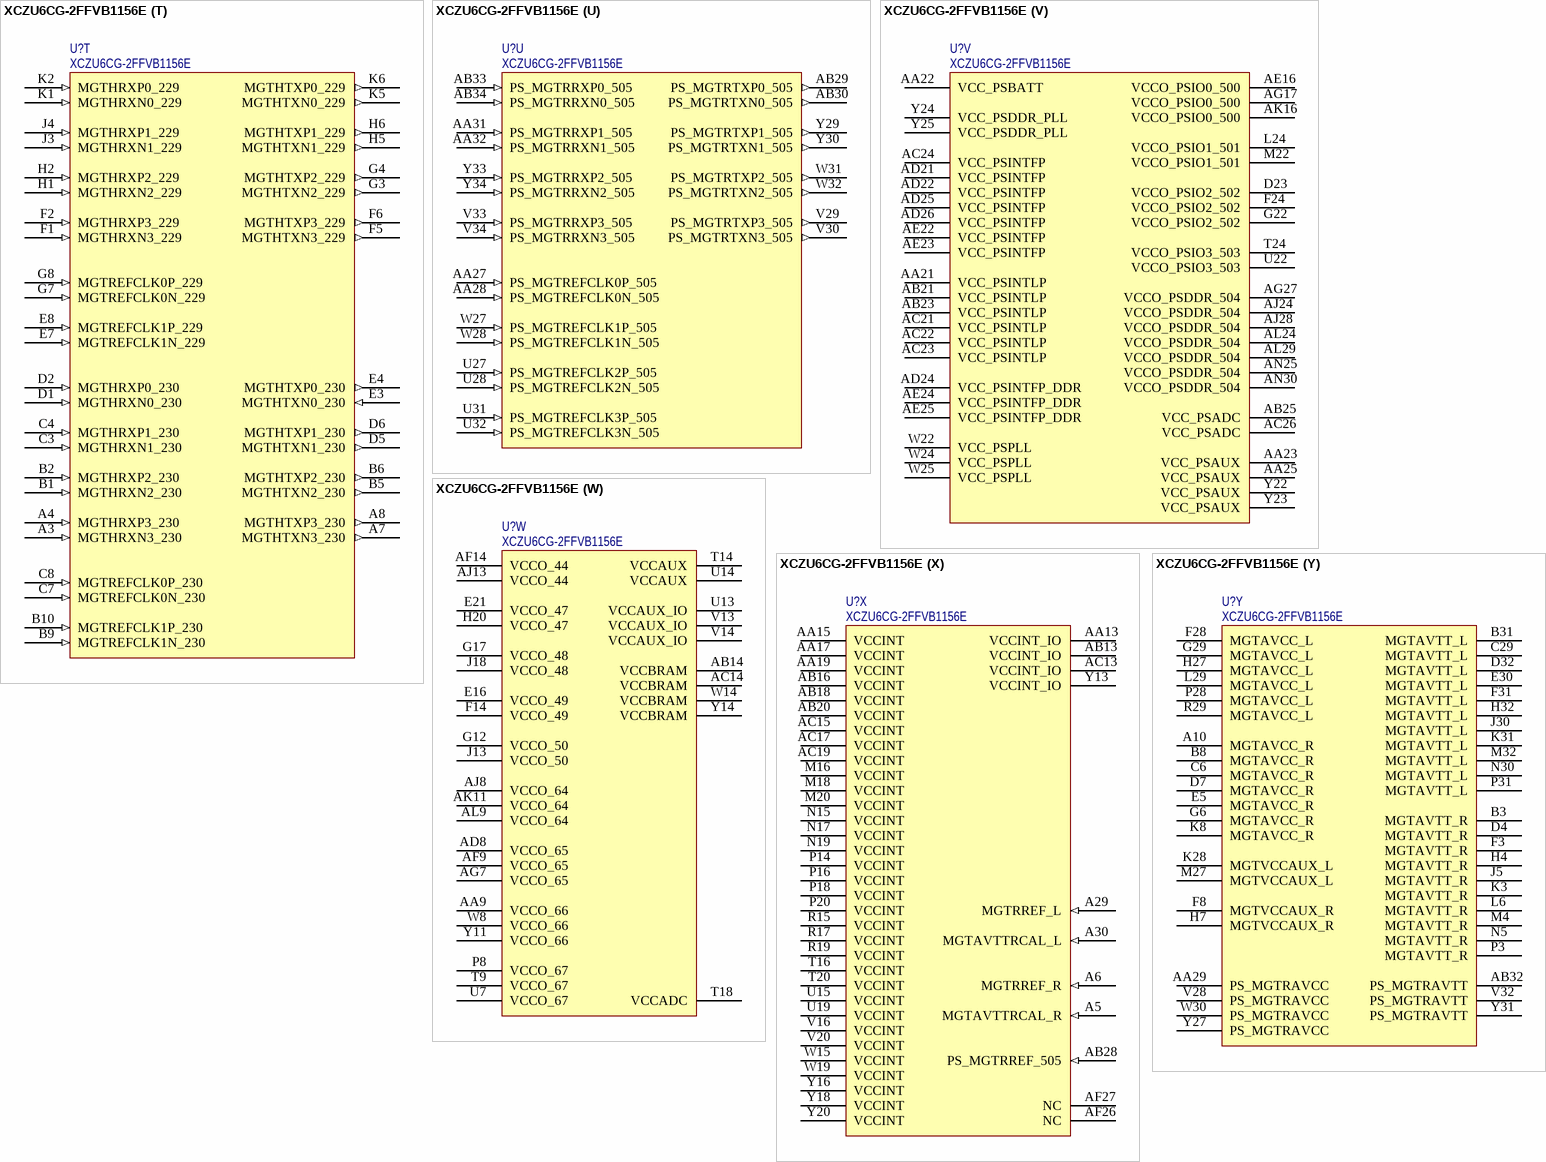
[diagram p11: symbol XCZU6CG-2FFVB1156E]

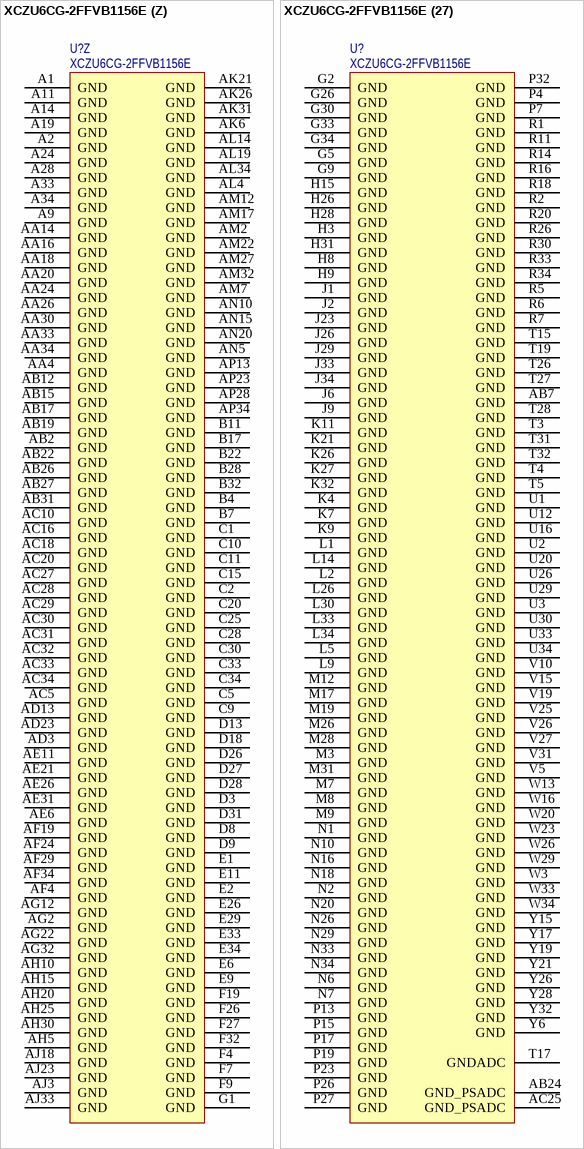
[diagram p12: symbol XCZU6CG-2FFVB1156E]